# Altium schematic symbol library DUAL_OR_8PIN.SchLib: 1 symbol
Pins are listed as number, name and electrical type; pins without a type are passive.

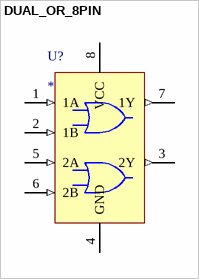
[diagram p0: symbol DUAL_OR_8PIN]

## DUAL_OR_8PIN
designator U?
Dual OR gate in 8-pin Package
pins: 1 1A (in), 2 1B (in), 3 2Y (out), 4 GND (power), 5 2A (in), 6 2B (in), 7 1Y (out), 8 VCC (power)